# EAGLE library part STM32L010F4P6 (library ST)
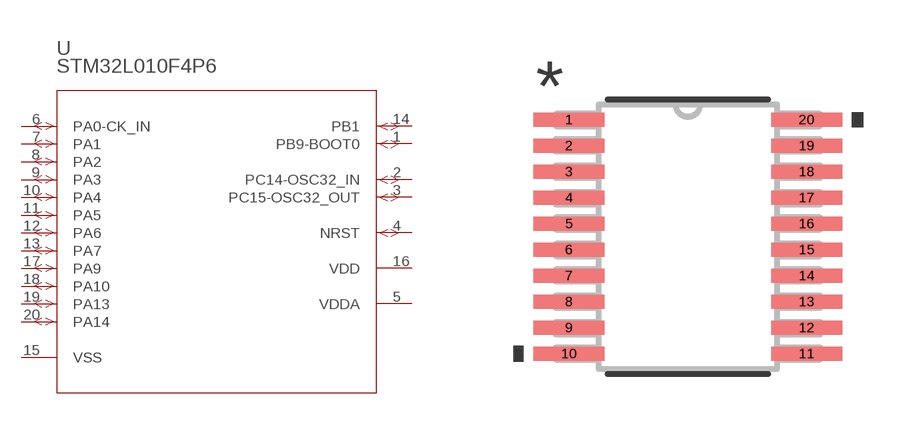
[diagram p1: symbol with the pads of TSSOP20-M; footprint TSSOP20-M]

Designator prefix U

## STM32L010F4P6_ (COPYRIGHT: Copyright (C) 2023 Ultra Librarian. All rights reserved.; MANUFACTURER_PART_NUMBER: STM32L010F4P6; MFR_NAME: STMicroelectronics)  [TSSOP20-M]
1  PB9-BOOT0  in
2  PC14-OSC32_IN
3  PC15-OSC32_OUT
4  NRST
5  VDDA  pwr
6  PA0-CK_IN
7  PA1
8  PA2
9  PA3
10  PA4
11  PA5
12  PA6
13  PA7
14  PB1
15  VSS  pwr
16  VDD  pwr
17  PA9
18  PA10
19  PA13
20  PA14

## Footprint TSSOP20-M (pad centres in mm)
smd 1.778 x 0.356: 1 -2.972,2.925; 2 -2.972,2.275; 3 -2.972,1.625; 4 -2.972,0.975; 5 -2.972,0.325; 6 -2.972,-0.325; 7 -2.972,-0.975; 8 -2.972,-1.625; 9 -2.972,-2.275; 10 -2.972,-2.925; 11 2.972,-2.925; 12 2.972,-2.275; 13 2.972,-1.625; 14 2.972,-0.975; 15 2.972,-0.325; 16 2.972,0.325; 17 2.972,0.975; 18 2.972,1.625; 19 2.972,2.275; 20 2.972,2.925